# Altium integrated library SMBJ28A.IntLib: 1 symbol
Pins are listed as number, name and electrical type; pins without a type are passive.

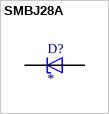
[diagram p0: symbol SMBJ28A]

## SMBJ28A
designator D?
600W, 32.8V, 5%, Unidirectional, TVS; MF: Taiwan Semiconductor; MP: SMBJ28A; SnapEDA_Link: https://www.snapeda.com/parts/SMBJ28A/taiwan/view-part/?ref=snap; Package: SMD-2 Taiwan Semiconductor; Value: *; Check_prices: https://www.snapeda.com/parts/SMBJ28A/taiwan/view-part/?ref=eda
footprint DIOM4336X265N
pins: A, C